# Altium schematic symbol library SamacSys.SchLib: 34 symbols
Pins are listed as number, name and electrical type; pins without a type are passive.

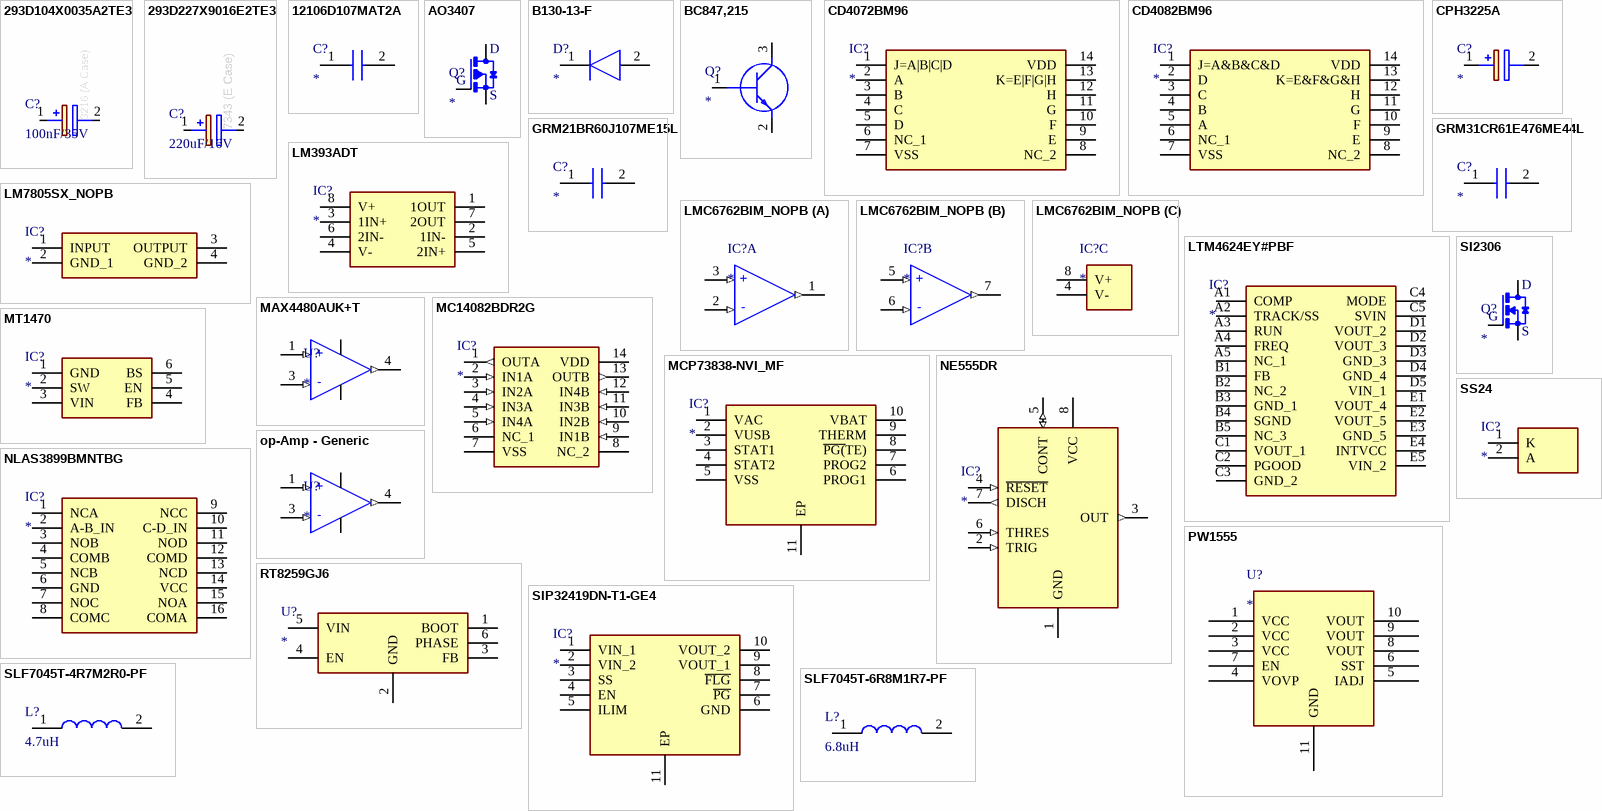
[diagram p0: symbols 293D104X0035A2TE3 to SS24]

## 293D104X0035A2TE3
designator C?, comment 100nF/35V  Package / Case: 3216 (A Case)
Tantalum Capacitors - Solid SMD .10uF 35volt 20% A Case Molded; Manufacturer: Vishay; Manufacturer Part Number: 293D104X0035A2TE3; Ripple Current: 600mA; Capacitance: 100nF; ESR (Equivalent Series Resistance): 20mR; Leakage Current: 0.5 µA; Datasheet Link: http://www.vishay.com/doc?40002; Height: 1.8mm; Supplier 1: Digi-Key; Supplier Part Number 1: 718-293D104X0035A2TE3CT-ND
footprint CAPPM3216X180N
pins: 1 +, 2 -

## 293D227X9016E2TE3
designator C?, comment 220uF/16V  Package / Case: 7343 (E Case)
Tantalum Capacitors - Solid SMD 220uF 16volts 10% E case Molded; Manufacturer: Vishay; Manufacturer_Part_Number: 293D227X9016E2TE3; Ripple Current: 570mA; ESR (Equivalent Series Resistance): 500mR; Leakage Current: 35.2 µA; Datasheet Link: http://www.vishay.com/doc?40002; Height: 4.3mm; Capacitance: 220uF; Supplier 1: Digi-Key; Supplier Part Number 1: 718-1751-1-ND
footprint CAPPM7343X430N
pins: 1 +, 2 -

## 12106D107MAT2A
designator C?
Capacitor; Manufacturer_Name: AVX; Manufacturer_Part_Number: 12106D107MAT2A
footprint CAPC3225X279N
pins: 1 C1, 2 C2

## AO3407
designator Q?
0.35W 3V 250uA 4.1A 30V 0.06Ω 4.1A,10V P Channel SOT-23(SOT-23-3) MOSFETs ROHS; Manufacturer: Guangdong Hottech; Manufacturer Part Number: AO3407; Datasheet Link: https://datasheet.lcsc.com/lcsc/1811151533_Guangdong-Hottech-AO3407_C181093.pdf; Height: 1.1mm; Package / Case: SOT-23-3
footprint SOT95P230X110-3N
pins: 1 G, 2 S, 3 D

## B130-13-F
designator D?
Diode; Manufacturer_Name: Diodes Inc.; Manufacturer_Part_Number: B130-13-F; Datasheet Link: https://componentsearchengine.com/Datasheets/2/B130-13-F.pdf; Height: 2.3mm
footprint DIOM5226X230N
pins: 1 K, 2 A

## BC847,215
designator Q?
Transistor BJT NPN; Manufacturer_Name: Nexperia; Manufacturer_Part_Number: BC847,215; Datasheet Link: http://assets.nexperia.com/documents/data-sheet/BC847_SER.pdf; Height: 1.1mm
footprint SOT95P230X110-3N
pins: 1 B, 2 E, 3 C

## CD4072BM96
designator IC?
Integrated Circuit; Manufacturer_Name: Texas Instruments; Manufacturer_Part_Number: CD4072BM96; Datasheet Link: http://www.ti.com/lit/gpn/cd4072b; Height: 1.75mm
footprint SOIC127P600X175-14N
pins: 1 J=A|B|C|D, 2 A, 3 B, 4 C, 5 D, 6 NC_1, 7 VSS, 8 NC_2, 9 E, 10 F, 11 G, 12 H, 13 K=E|F|G|H, 14 VDD

## CD4082BM96
designator IC?
Integrated Circuit; Manufacturer_Name: Texas Instruments; Manufacturer_Part_Number: CD4082BM96; Datasheet Link: http://www.ti.com/lit/gpn/cd4082b; Height: 1.75mm
footprint SOIC127P600X175-14N
pins: 1 J=A&B&C&D, 2 D, 3 C, 4 B, 5 A, 6 NC_1, 7 VSS, 8 NC_2, 9 E, 10 F, 11 G, 12 H, 13 K=E&F&G&H, 14 VDD

## CPH3225A
designator C?
Capacitor Polarised; Manufacturer_Name: Seiko Instruments Micro Energy; Manufacturer_Part_Number: CPH3225A; Datasheet Link: https://www.sii.co.jp/en/me/datasheets/chip-capacitor/cph3225a/; Height: 1mm; Mouser2 Part Number: 628-CPH3225A; Mouser2 Price/Stock: https://www.mouser.com/Search/Refine.aspx?Keyword=628-CPH3225A
footprint CPH3225A
pins: 1 +, 2 -

## GRM21BR60J107ME15L
designator C?
Capacitor; Manufacturer_Name: Murata Electronics; Manufacturer_Part_Number: GRM21BR60J107ME15L; Datasheet Link: https://psearch.en.murata.com/capacitor/product/GRM21BR60J107ME15%23.html; Height: 1.45mm
footprint CAPC2012X145N
pins: 1, 2

## GRM31CR61E476ME44L
designator C?
Capacitor; Manufacturer_Name: Murata Electronics; Manufacturer_Part_Number: GRM31CR61E476ME44L; Datasheet Link: http://www.murata.com/~/media/webrenewal/support/library/catalog/products/capacitor/mlcc/c02e.pdf; Height: 1.8mm
footprint CAPC3216X180N
pins: 1, 2

## LM393ADT
designator IC?
Integrated Circuit; Manufacturer_Name: STMicroelectronics; Manufacturer_Part_Number: LM393ADT; Datasheet Link: http://www.st.com/content/ccc/resource/technical/document/datasheet/group1/b4/cc/cf/13/18/28/44/f5/CD00000465/files/CD00000465.pdf/jcr:content/translations/en.CD00000465.pdf; Height: 1.75mm
footprint SOIC127P600X175-8N
pins: 1 1OUT, 2 1IN-, 3 1IN+, 4 V-, 5 2IN+, 6 2IN-, 7 2OUT, 8 V+

## LM7805SX_NOPB
designator IC?
Integrated Circuit; Manufacturer_Name: Texas Instruments; Manufacturer_Part_Number: LM7805SX/NOPB; Datasheet Link: http://www.ti.com/lit/gpn/LM7800; Mouser2 Part Number: 595-LM7805SX/NOPB; Mouser2 Price/Stock: https://www.mouser.com/Search/Refine.aspx?Keyword=595-LM7805SX%2FNOPB
footprint KTT0003B
pins: 1 INPUT, 2 GND_1, 3 OUTPUT, 4 GND_2

## LMC6762BIM_NOPB
designator IC?
Integrated Circuit; Manufacturer_Name: Texas Instruments; Manufacturer_Part_Number: LMC6762BIM/NOPB; Datasheet Link: http://www.ti.com/lit/ds/symlink/lmc6762.pdf; Height: 1.75mm
footprint SOIC127P600X175-8N
part A pins: 1 OUT_A (out), 2 IN_A- (in), 3 IN_A+ (in)
part B pins: 5 IN_B+ (in), 6 IN_B- (in), 7 OUT_B (out)
part C pins: 4 V-, 8 V+
part A text: +; -
part B text: +; -

## LTM4624EY#PBF
designator IC?
Integrated Circuit; Manufacturer_Name: Linear Technology; Manufacturer_Part_Number: LTM4624EY#PBF; Datasheet Link: https://componentsearchengine.com//LTM4624EY#PBF.pdf; Height: 5.21mm; Mouser2 Part Number: 584-LTM4624EY#PBF; Mouser2 Price/Stock: https://www.mouser.com/Search/Refine.aspx?Keyword=584-LTM4624EY%23PBF
footprint BGA25C127P5X5_625X625X521
pins: A1 COMP, A2 TRACK/SS, A3 RUN, A4 FREQ, A5 NC_1, B1 FB, B2 NC_2, B3 GND_1, B4 SGND, B5 NC_3, C1 VOUT_1, C2 PGOOD, C3 GND_2, C4 MODE, C5 SVIN, D1 VOUT_2, D2 VOUT_3, D3 GND_3, D4 GND_4, D5 VIN_1, E1 VOUT_4, E2 VOUT_5, E3 GND_5, E4 INTVCC, E5 VIN_2

## MAX4480AUK+T
designator U?
Operational Amplifiers - Op Amps Single/Dual/Quad, Low-Cost, Single-Supply, Rail-to-Rail Op Amps with Shutdown; Manufacturer Part Number: MAX4480AUK+T; Package/ Case: SOT-23-5
footprint SOT95P280X145-6N
footprint SOT95P280X145-5N
pins: 1 IN+ (in), 2 V- (power), 3 IN- (in), 4 OUT (out), 5 V+ (power)
text: +; -

## MC14082BDR2G
designator IC?
Integrated Circuit; Manufacturer_Name: ON Semiconductor; Manufacturer_Part_Number: MC14082BDR2G; Datasheet Link: http://www.onsemi.com/pub/Collateral/MC14001B-D.PDF; Height: 1.75mm
footprint SOIC127P600X175-14N
pins: 1 OUTA (out), 2 IN1A (in), 3 IN2A (in), 4 IN3A (in), 5 IN4A (in), 6 NC_1, 7 VSS (power), 8 NC_2, 9 IN1B (in), 10 IN2B (in), 11 IN3B (in), 12 IN4B (in), 13 OUTB (out), 14 VDD (power)

## MCP73838-NVI_MF
designator IC?
Integrated Circuit; Manufacturer_Name: Microchip; Manufacturer_Part_Number: MCP73838-NVI/MF; Datasheet Link: http://ww1.microchip.com/downloads/en/DeviceDoc/20002071C.pdf; Height: 1mm
footprint SON50P300X300X100-11N-D
pins: 1 VAC, 2 VUSB, 3 STAT1, 4 STAT2, 5 VSS, 6 PROG1, 7 PROG2, 8 ~{PG(}TE), 9 THERM, 10 VBAT, 11 EP

## MT1470
designator IC?
Integrated Circuit; Manufacturer_Name: Aerosemi; Manufacturer_Part_Number: MT1470; Datasheet Link: https://datasheet.lcsc.com/szlcsc/XI-AN-Aerosemi-Tech-MT1470_C181781.pdf; Height: 1.45mm
footprint SOT95P280X145-6N
pins: 1 GND, 2 SW, 3 VIN, 4 FB, 5 EN, 6 BS

## NE555DR
designator IC?
Integrated Circuit; Manufacturer_Name: Texas Instruments; Manufacturer_Part_Number: NE555DR; Datasheet Link: http://www.ti.com/lit/ds/symlink/ne555.pdf; Height: 1.75mm; Mouser Part Number: 595-NE555DR; Mouser Price/Stock: https://www.mouser.com/Search/Refine.aspx?Keyword=595-NE555DR; RS Part Number: 1218414; RS Price/Stock: http://uk.rs-online.com/web/p/products/1218414
footprint SOIC127P600X175-8N
pins: 1 GND (power), 2 TRIG (in), 3 OUT (out), 4 ~{RESET} (in), 5 CONT (io), 6 THRES (in), 7 DISCH (out), 8 VCC (power)

## NLAS3899BMNTBG
designator IC?
Integrated Circuit; Manufacturer_Name: ON Semiconductor; Manufacturer_Part_Number: NLAS3899BMNTBG; Datasheet Link: https://www.onsemi.com/pub/Collateral/NLAS3899B-D.PDF; Height: 0.8mm
footprint NLAS3899BMNTBG
pins: 1 NCA, 2 A-B_IN, 3 NOB, 4 COMB, 5 NCB, 6 GND, 7 NOC, 8 COMC, 9 NCC, 10 C-D_IN, 11 NOD, 12 COMD, 13 NCD, 14 VCC, 15 NOA, 16 COMA

## op-Amp - Generic
designator U?
Manufacturer Part Number: *; Package/ Case: *
footprint SOT95P280X145-6N
footprint SOT95P280X145-5N
pins: 1 IN+ (in), 2 V- (power), 3 IN- (in), 4 OUT (out), 5 V+ (power)
text: +; -

## PW1555
designator U?
2.5-15V Input, 4.8A Current Limit Switch; Manufacturer Part Number: PW1555; Package / Case: DFN3x3-10
footprint SON50P300X300X100-11N-D
pins: 1 VCC, 2 VCC, 3 VCC, 4 VOVP, 5 IADJ, 6 SST, 7 EN, 8 VOUT, 9 VOUT, 10 VOUT, 11 GND

## RT8259GJ6
designator U?
Integrated Circuit; Manufacturer: Richtek Tech; Manufacturer Part Number: RT8259GJ6; Datasheet Link: https://datasheet.lcsc.com/szlcsc/1806120411_Richtek-Tech-RT8259GJ6-Z00_C130809.pdf; Height: 1.295mm; Package / Case: SOT-23-6 Thin, TSOT-23-6
footprint SOT94P279X130-6N
pins: 1 BOOT, 2 GND, 3 FB, 4 EN, 5 VIN, 6 PHASE

## SI2306
designator Q?
3V 250uA 0.047Ω 3.5A,10V 30V 3.16A N Channel 0.75W SOT-23(SOT-23-3) MOSFETs ROHS; Manufacturer: Guangdong Hottech; Manufacturer Part Number: SI2306; Datasheet Link: https://datasheet.lcsc.com/lcsc/1811121706_Guangdong-Hottech-SI2306_C181089.pdf; Height: 1.1mm; Package / Case: SOT-23-3
footprint SOT95P230X110-3N
pins: 1 G, 2 S, 3 D

## SIP32419DN-T1-GE4
designator IC?
Integrated Circuit; Manufacturer_Name: Vishay; Manufacturer_Part_Number: SIP32419DN-T1-GE4; Datasheet Link: http://www.vishay.com/docs/63939/sip32429.pdf; Height: 1mm
footprint SON50P300X300X100-11N-D
pins: 1 VIN_1, 2 VIN_2, 3 SS, 4 EN, 5 ILIM, 6 GND, 7 ~{PG}, 8 ~{FLG}, 9 VOUT_1, 10 VOUT_2, 11 EP

## SLF7045T-4R7M2R0-PF
designator L?, comment 4.7uH
Inductor; Manufacturer_Name: TDK; Manufacturer_Part_Number: SLF7045T-4R7M2R0-PF; Datasheet Link: https://product.tdk.com/system/files/dam/doc/product/inductor/inductor/smd/catalog/inductor_commercial_power_slf7045_en.pdf
footprint SLF7032/7045
pins: 1, 2

## SLF7045T-6R8M1R7-PF
designator L?, comment 6.8uH
Inductor; Manufacturer: TDK; Manufacturer Part Number: SLF7045T-6R8M1R7-PF; Datasheet Link: https://product.tdk.com/system/files/dam/doc/product/inductor/inductor/smd/catalog/inductor_commercial_power_slf7045_en.pdf
footprint SLF7032/7045
pins: 1, 2

## SS24
designator IC?
Integrated Circuit; Manufacturer_Name: SLKORMICRO Elec.; Manufacturer_Part_Number: SS24; Datasheet Link: https://datasheet.lcsc.com/szlcsc/1907301704_SLKORMICRO-Elec-SS24_C408257.pdf; Height: 2.5mm
footprint DIOM5126X250N
pins: 1 K, 2 A

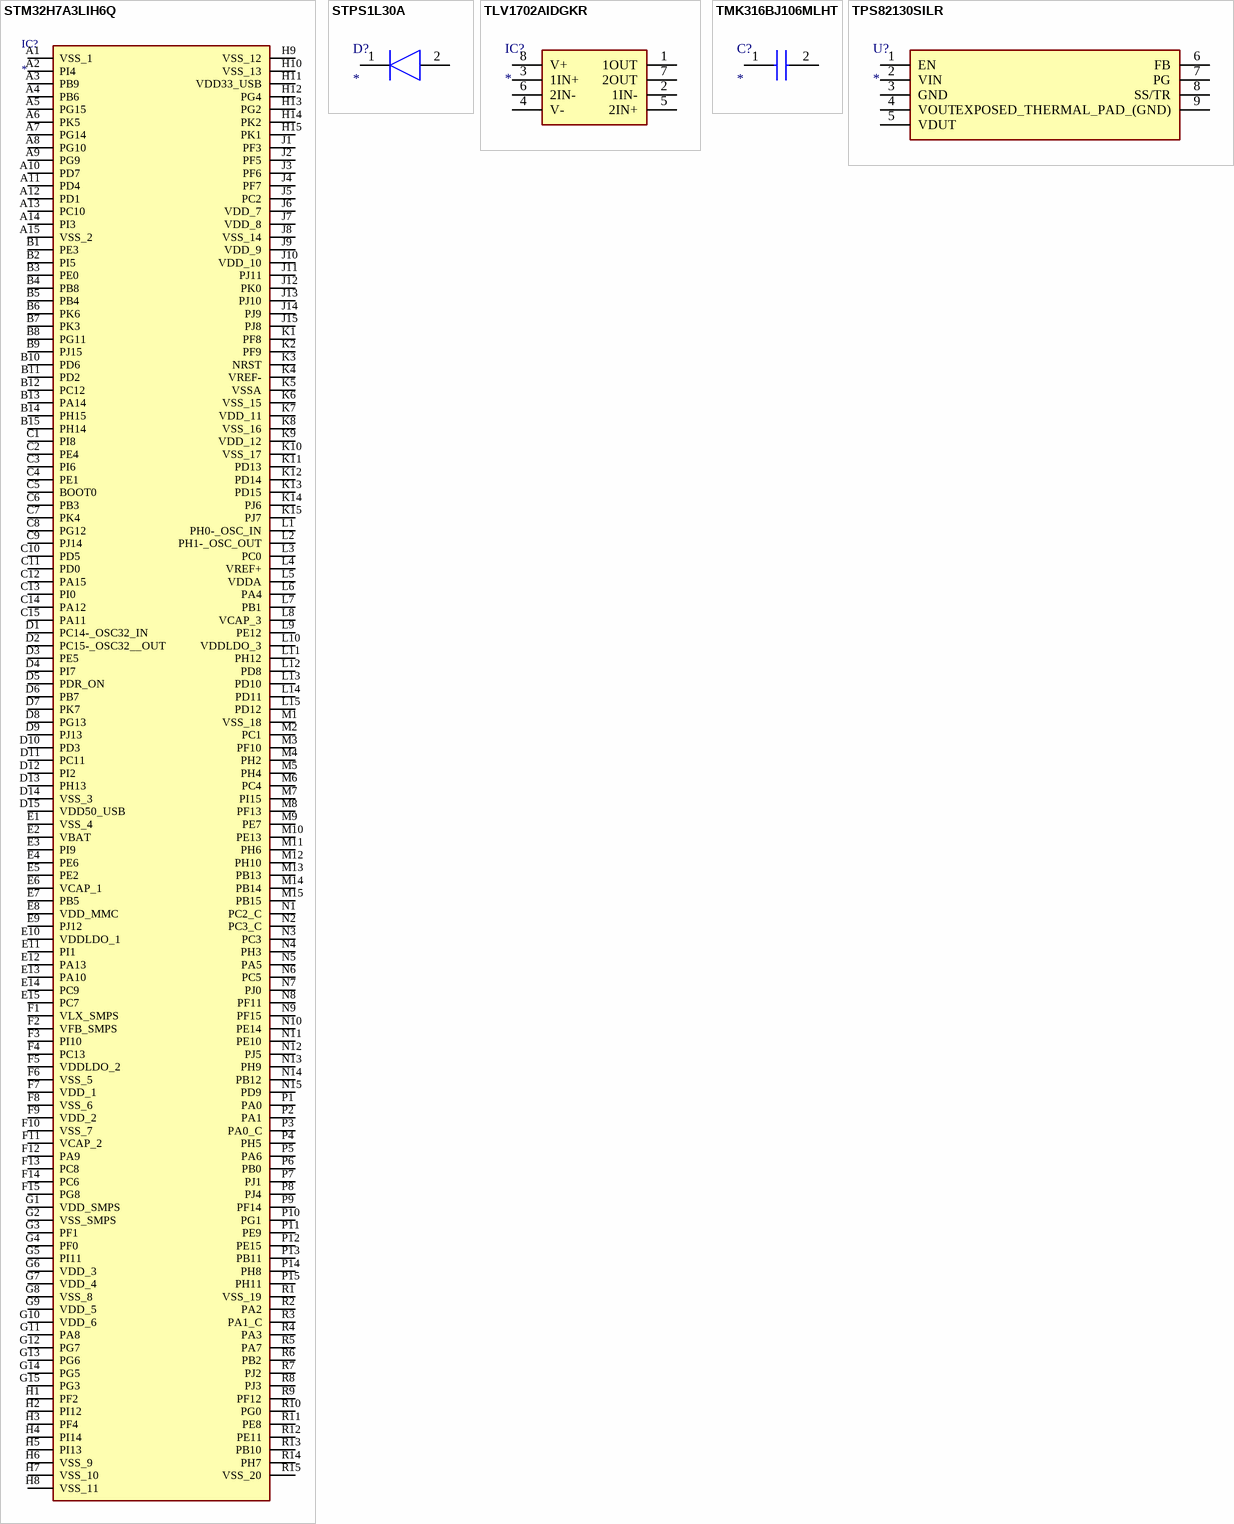
[diagram p1: symbols STM32H7A3LIH6Q to TPS82130SILR]

## STM32H7A3LIH6Q
designator IC?
Integrated Circuit; Manufacturer_Name: STMicroelectronics; Manufacturer_Part_Number: STM32H7A3LIH6Q; Datasheet Link: https://www.mouser.com/datasheet/2/389/en.brstm32h7-1709837.pdf; Height: 1.2mm; Mouser Part Number: 511-STM32H7A3LIH6Q; Mouser Price/Stock: https://www.mouser.co.uk/ProductDetail/STMicroelectronics/STM32H7A3LIH6Q/?qs=xZ%2FP%252Ba9zWqaoPjrZwmiI%2FQ%3D%3D
footprint BGA225C80P15X15_1300X1300X120
pins: A1 VSS_1, A2 PI4, A3 PB9, A4 PB6, A5 PG15, A6 PK5, A7 PG14, A8 PG10, A9 PG9, A10 PD7, A11 PD4, A12 PD1, A13 PC10, A14 PI3, A15 VSS_2, B1 PE3, B2 PI5, B3 PE0, B4 PB8, B5 PB4, B6 PK6, B7 PK3, B8 PG11, B9 PJ15, B10 PD6, B11 PD2, B12 PC12, B13 PA14, B14 PH15, B15 PH14, C1 PI8, C2 PE4, C3 PI6, C4 PE1, C5 BOOT0, C6 PB3, C7 PK4, C8 PG12, C9 PJ14, C10 PD5, C11 PD0, C12 PA15, C13 PI0, C14 PA12, C15 PA11, D1 PC14-_OSC32_IN, D2 PC15-_OSC32__OUT, D3 PE5, D4 PI7, D5 PDR_ON, D6 PB7, D7 PK7, D8 PG13, D9 PJ13, D10 PD3, D11 PC11, D12 PI2, D13 PH13, D14 VSS_3, D15 VDD50_USB, E1 VSS_4, E2 VBAT, E3 PI9, E4 PE6, E5 PE2, E6 VCAP_1, E7 PB5, E8 VDD_MMC, E9 PJ12, E10 VDDLDO_1, E11 PI1, E12 PA13, E13 PA10, E14 PC9, E15 PC7, F1 VLX_SMPS, F2 VFB_SMPS, F3 PI10, F4 PC13, F5 VDDLDO_2, F6 VSS_5, F7 VDD_1, F8 VSS_6, F9 VDD_2, F10 VSS_7, F11 VCAP_2, F12 PA9, F13 PC8, F14 PC6, F15 PG8, G1 VDD_SMPS, G2 VSS_SMPS, G3 PF1, G4 PF0, G5 PI11, G6 VDD_3, G7 VDD_4, G8 VSS_8, G9 VDD_5, G10 VDD_6, G11 PA8, G12 PG7, G13 PG6, G14 PG5, G15 PG3, H1 PF2, H2 PI12, H3 PF4, H4 PI14, H5 PI13, H6 VSS_9, H7 VSS_10, H8 VSS_11, H9 VSS_12, H10 VSS_13, H11 VDD33_USB, H12 PG4, H13 PG2, H14 PK2, H15 PK1, J1 PF3, J2 PF5, J3 PF6, J4 PF7, J5 PC2, J6 VDD_7, J7 VDD_8, J8 VSS_14, J9 VDD_9, J10 VDD_10, J11 PJ11, J12 PK0, J13 PJ10, J14 PJ9, J15 PJ8, K1 PF8, K2 PF9, K3 NRST, K4 VREF-, K5 VSSA, K6 VSS_15, K7 VDD_11, K8 VSS_16, K9 VDD_12, K10 VSS_17, K11 PD13, K12 PD14, K13 PD15, K14 PJ6, K15 PJ7, L1 PH0-_OSC_IN, L2 PH1-_OSC_OUT, L3 PC0, L4 VREF+, L5 VDDA, L6 PA4, L7 PB1, L8 VCAP_3, L9 PE12, L10 VDDLDO_3, L11 PH12, L12 PD8, L13 PD10, L14 PD11, L15 PD12, M1 VSS_18, M2 PC1, M3 PF10, M4 PH2, M5 PH4, M6 PC4, M7 PI15, M8 PF13, M9 PE7, M10 PE13, M11 PH6, M12 PH10, M13 PB13, M14 PB14, M15 PB15, N1 PC2_C, N2 PC3_C, N3 PC3, N4 PH3, N5 PA5, N6 PC5, N7 PJ0, N8 PF11, N9 PF15, N10 PE14, N11 PE10, N12 PJ5, N13 PH9, N14 PB12, N15 PD9, P1 PA0, P2 PA1, P3 PA0_C, P4 PH5, P5 PA6, P6 PB0, P7 PJ1, P8 PJ4, P9 PF14, P10 PG1, P11 PE9, P12 PE15, P13 PB11, P14 PH8, P15 PH11, R1 VSS_19, R2 PA2, R3 PA1_C, R4 PA3, R5 PA7, R6 PB2, R7 PJ2, R8 PJ3, R9 PF12, R10 PG0, R11 PE8, R12 PE11, R13 PB10, R14 PH7, R15 VSS_20

## STPS1L30A
designator D?
Diode; Manufacturer_Name: STMicroelectronics; Manufacturer_Part_Number: STPS1L30A; Datasheet Link: http://www.st.com/web/en/resource/technical/document/datasheet/CD00001323.pdf; Height: 2.23mm
footprint DIOM5226X223N
pins: 1 K, 2 A

## TLV1702AIDGKR
designator IC?
Integrated Circuit; Manufacturer_Name: Texas Instruments; Manufacturer_Part_Number: TLV1702AIDGKR; Datasheet Link: http://www.ti.com/lit/gpn/tlv1702; Height: 1.1mm
footprint SOP65P490X110-8N
pins: 1 1OUT, 2 1IN-, 3 1IN+, 4 V-, 5 2IN+, 6 2IN-, 7 2OUT, 8 V+

## TMK316BJ106MLHT
designator C?
Capacitor; Manufacturer_Name: TAIYO YUDEN; Manufacturer_Part_Number: TMK316BJ106MLHT; Datasheet Link: https://componentsearchengine.com//TMK316BJ106MLHT.pdf; Height: 1.8mm; Mouser2 Part Number: 963-TMK316BJ106MLHT; Mouser2 Price/Stock: https://www.mouser.com/Search/Refine.aspx?Keyword=963-TMK316BJ106MLHT
footprint CAPC3216X180N
pins: 1, 2

## TPS82130SILR
designator U?
Undefined or Miscellaneous; Manufacturer_Name: Texas Instruments; Manufacturer_Part_Number: TPS82130SILR; Datasheet Link: http://www.ti.com/lit/gpn/tps82130; Mouser2 Part Number: 595-TPS82130SILR; Mouser2 Price/Stock: https://www.mouser.com/Search/Refine.aspx?Keyword=595-TPS82130SILR
footprint SIL0008D
pins: 1 EN, 2 VIN, 3 GND, 4 VOUT, 5 VDUT, 6 FB, 7 PG, 8 SS/TR, 9 EXPOSED_THERMAL_PAD_(GND)